# Altium schematic symbol library ESP8266.SchLib: 1 symbol
Pins are listed as number, name and electrical type; pins without a type are passive.

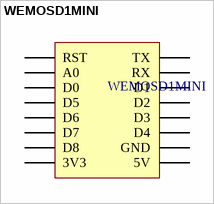
[diagram p0: symbol WEMOSD1MINI]

## WEMOSD1MINI
designator WEMOSD1MINI  (value not drawn)
ESP8266 Wemos D1 mini
footprint WEMOSD1MINI (ESP8266 Wemos D1 mini)
footprint WemosD1Mini_UpsideDown (ESP8266 Wemos D1 mini)
pins: 3V3, 5V, A0, D0, D1, D2, D3, D4, D5, D6, D7, D8, GND, RST, RX, TX